# EAGLE library part DCDC_VICOR_MINI (library wheat)
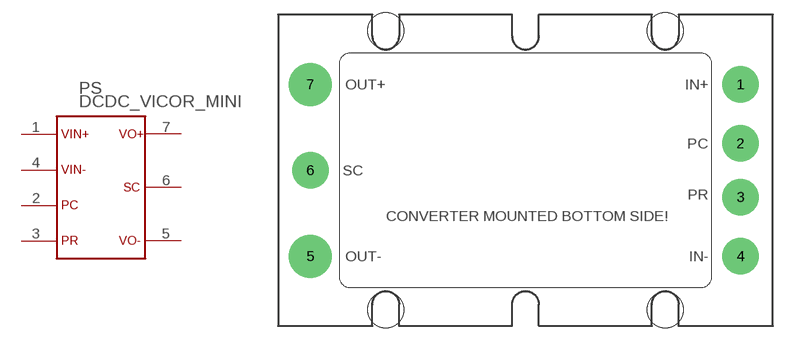
[diagram p256: symbol with the pads of DCDC_VICOR_MINI; footprint DCDC_VICOR_MINI]

Designator prefix PS

## DCDC_VICOR_MINI  [DCDC_VICOR_MINI]
1  VIN+  pas
2  PC  pas
3  PR  pas
4  VIN-  pas
5  OUT-  pas
6  SC  pas
7  OUT+  pas

## Footprint DCDC_VICOR_MINI (pad centres in mm)
drill 2.388 pad 4.318: 1 25.4,10.16; 2 25.4,3.175; 3 25.4,-3.175; 4 25.4,-10.16; 6 -25.4,0
drill 2.388 pad 5.08: 5 -25.4,-10.16; 7 -25.4,10.16
hole 4.267 at -16.51,16.51
hole 4.267 at 16.51,16.51
hole 4.267 at 16.51,-16.51
hole 4.267 at -16.51,-16.51